# Altium footprint library Components - 16.10.22 - 00.34.PcbLib: 3 footprints
Each footprint in its own frame and in the unit in brackets; x right, y up, seen from the top. Pads: shape width x height; smd on the part's side, far side on the other; paste and mask are expansions set on the pad; w line width, h text height; cw(c..) or ccw(c..) is an arc to the next point about the centre after c.
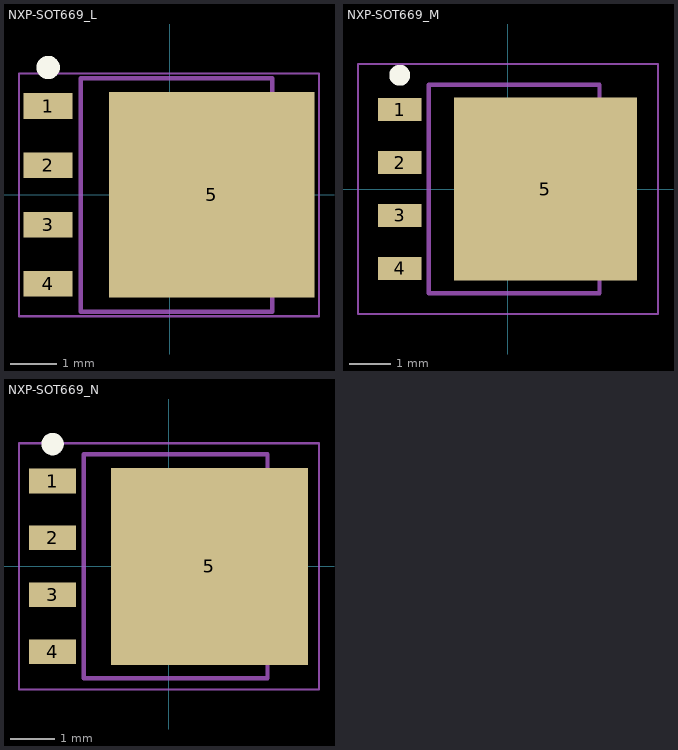
[diagram p0: the footprints below, top view; thin cyan lines are the x and y axes]

## NXP-SOT669_L [mm] "DPAK, 4-Leads, Body 5x4.1mm, Pitch 1.27mm, IPC High Density"
height 1.2
pads (5):
  rect 1.05x0.55 smd: 1(-2.6,1.905) 2(-2.6,0.635) 3(-2.6,-0.635) 4(-2.6,-1.905)
  rect 4.4x4.4 smd: 5(0.9,0)
Top Overlay:
  circle w0.25: c-2.6,2.73 r0.125
Mechanical 13:
  lines w0.1: -1.9,-2.5 2.2,-2.5 2.2,2.5 -1.9,2.5 -1.9,-2.5
Mechanical 15:
  lines w0.05: -3.225,-2.6 3.2,-2.6 3.2,2.6 -3.225,2.6 -3.225,-2.6
  lines w0.1: -0.5,0 0.5,0 ; 0,-0.5 0,0.5
3D body: height 1.2, standoff 0, extent -1.9,-2.5 2.2,2.5

## NXP-SOT669_M [mm] "DPAK, 4-Leads, Body 5x4.1mm, Pitch 1.27mm, IPC Low Density"
height 1.2
pads (5):
  rect 1.05x0.55 smd: 1(-2.6,1.905) 2(-2.6,0.635) 3(-2.6,-0.635) 4(-2.6,-1.905)
  rect 4.4x4.4 smd: 5(0.9,0)
Top Overlay:
  circle w0.25: c-2.6,2.73 r0.125
Mechanical 13:
  lines w0.1: -1.9,-2.5 -1.9,2.5 2.2,2.5 2.2,-2.5 -1.9,-2.5
Mechanical 15:
  lines w0.05: -3.6,-3 -3.6,3 3.6,3 3.6,-3 -3.6,-3
  lines w0.1: -0.5,0 0.5,0 ; 0,-0.5 0,0.5
3D body: height 1.2, standoff 0, extent -1.9,-2.5 2.2,2.5

## NXP-SOT669_N [mm] "DPAK, 4-Leads, Body 5x4.1mm, Pitch 1.27mm, IPC Medium Density"
height 1.2
pads (5):
  rect 1.05x0.55 smd: 1(-2.6,1.905) 2(-2.6,0.635) 3(-2.6,-0.635) 4(-2.6,-1.905)
  rect 4.4x4.4 smd: 5(0.9,0)
Top Overlay:
  circle w0.25: c-2.6,2.73 r0.125
Mechanical 13:
  lines w0.1: -1.9,-2.5 -1.9,2.5 2.2,2.5 2.2,-2.5 -1.9,-2.5
Mechanical 15:
  lines w0.05: -3.35,-2.75 -3.35,2.75 3.35,2.75 3.35,-2.75 -3.35,-2.75
  lines w0.1: -0.5,0 0.5,0 ; 0,-0.5 0,0.5
3D body: height 1.2, standoff 0, extent -1.9,-2.5 2.2,2.5